# Altium footprint library Kobiconn Footprints.PcbLib: 2 footprints
Each footprint in its own frame and in the unit in brackets; x right, y up, seen from the top. Pads: shape width x height; smd on the part's side, far side on the other; paste and mask are expansions set on the pad; w line width, h text height; cw(c..) or ccw(c..) is an arc to the next point about the centre after c.
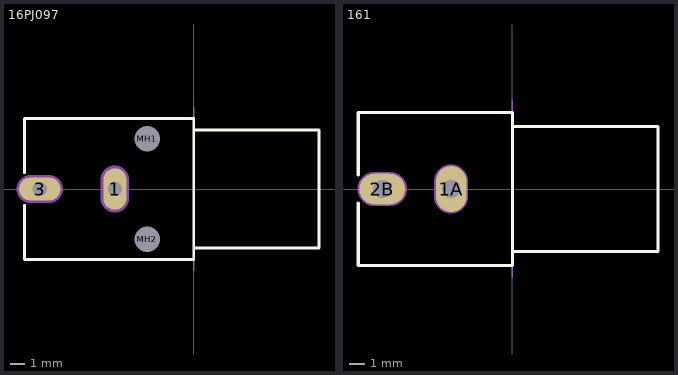
[diagram p0: the footprints below, top view; thin cyan lines are the x and y axes]

## 16PJ097 [mm] "Two Conductor Jack (RCA), Right Angle, Thru-Hole, Body 10 x 12 x 13 mm (WxTxH)"
height 13
pads (4):
  oval 1.65x2.94 hole 1: 1(-5.59,0)
  oval 2.94x1.65 hole 1: 3(-10.924,0)
  round 1.5 hole 1.8 unplated: MH1(-3.304,3.556) MH2(-3.304,-3.556)
Top Overlay:
  lines w0.2: -12,-1.15 -12,-5 0,-5 0,5 -12,5 -12,1.15 ; 0,-4.19 8.89,-4.19 8.89,4.19 0,4.19
Mechanical 1:
  lines w0.1: 0,-5.8 0,5.8
  lines w1: -11.574,0 -10.274,0 ; -5.59,-0.65 -5.59,0.65
  text "PCB Edge" at -0.343,-4.647 h0.25
  text "Alert PCB fab to slot details" at -12,7.842 h0.3
  text "Slot 1x2.3mm, PTH" at -12,7.342 h0.3
  text "Assign keep-out area to slot" at -12,8.342 h0.3
  text "Mech 1 - Slot cut-out" at -12,6.842 h0.3
  text "Mech 2 - Clearance, move to internal plane if present" at -12,6.342 h0.3
Mechanical 2:
  lines w2.016: -11.574,0 -10.274,0 ; -5.59,-0.65 -5.59,0.65

## 161 [mm] "Two Conductor Jack (RCA), Right Angle, Thru-Hole, Body 10 x 10 x 13 mm (WxTxH)"
height 13
pads (2):
  oval 2x3 hole 1.2: 1A(-4,0)
  oval 3x2 hole 1.2: 2B(-8.496,0)
Top Overlay:
  lines w0.2: -10.075,5 -0.018,5 ; -10.057,-0.92 -10.057,-5 0,-5 0,5 ; -10.057,0.92 -10.057,5 ; 0,-4.065 9.5,-4.065 9.5,4.065 0,4.065
Mechanical 1:
  lines w0.1: 0,-5.8 0,5.8
  lines w1.2: -8.996,0 -7.996,0 ; -4,-0.5 -4,0.5
  text "PCB Edge" at -0.333,-4.618 h0.25
  text "Alert PCB fab to slot details" at -10.057,7.842 h0.3
  text "Slot 1.2x2.2mm, PTH" at -10.057,7.342 h0.3
  text "Assign keep-out area to slot" at -10.057,8.342 h0.3
  text "Mech 1 - Slot cut-out" at -10.057,6.842 h0.3
  text "Mech 2 - Clearance, move to internal plane if present" at -10.057,6.342 h0.3
Mechanical 2:
  lines w2.216: -8.996,0 -7.996,0 ; -4,-0.5 -4,0.5